# Altium integrated library Texas Instruments Power Management PWM Controller.IntLib: 1227 symbols (part 25 of 49)
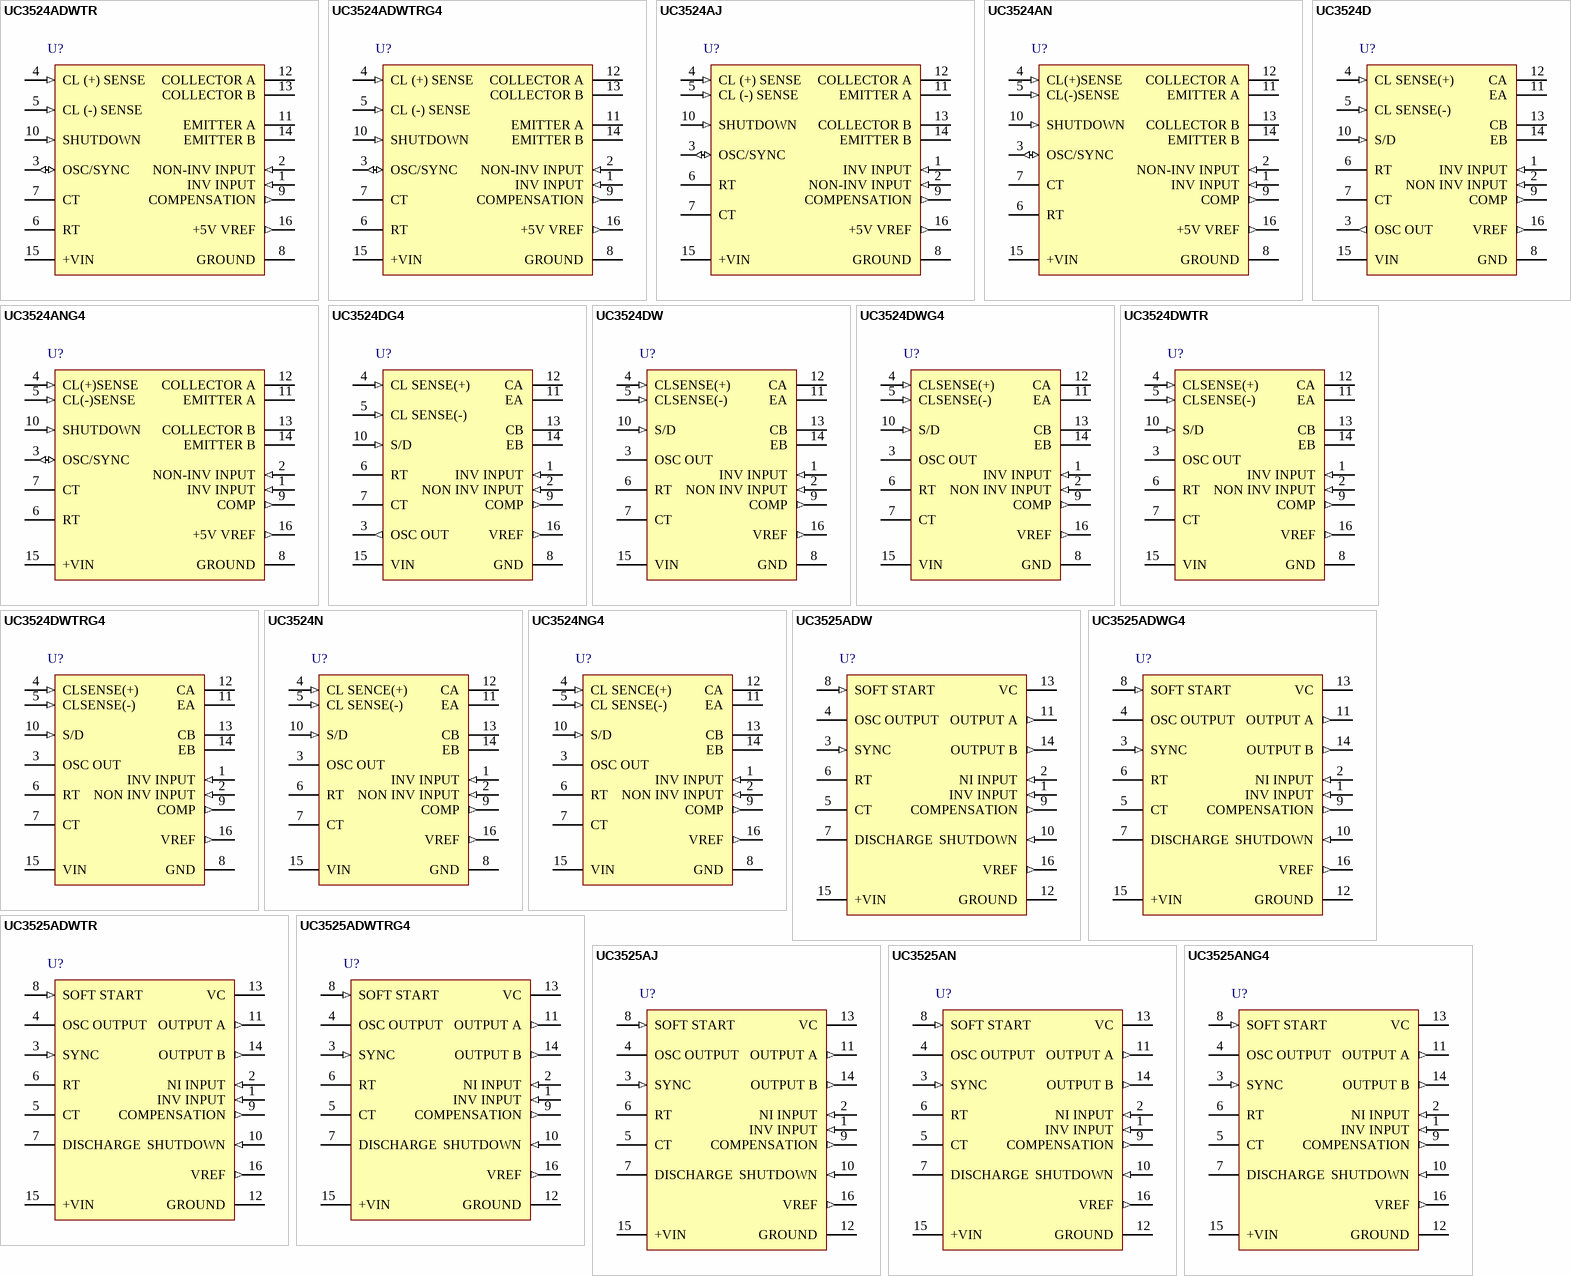
[diagram p67: symbols UC3524ADWTR to UC3525ANG4]

## UC3524DW
designator U?
Advanced Regulating Pulse Width Modulator with Voltage Control, 50 % Duty Cycle, 0 to +70 degC, 16-pin SOIC (DW), Green (RoHS & no Sb/Br); PartNumber: UC3524DW; Manufacturer: Texas Instruments; Duty Cycle(Max)(%): 50; Frequency(Max)(kHz): 450; Rating: Military; Regulated Outputs(#): 2; SubFamily: PWM Controller; Topology: Boost, Flyback, Forward, Full-Bridge, Half-Bridge, Push-Pull; DatasheetVersion: SLUS180E; PackageVersion: revG, Jan-2011; PackageReference: DW16; PackageDescription: 16-Pin Small Outline Integrated Circuit, 10.3 x 7.5 mm, Pitch 1.27 mm Pitch; Supplier 1: Digi-Key; Supplier Part Number 1: UC3524DW-ND; Supplier 2: Newark; Supplier Part Number 2: 77C3121; Supplier 3: Mouser; Supplier Part Number 3: 595-UC3524DW; Control Method: Voltage; Eco-Plan: Green (RoHS & no Sb/Br); UVLO Thresholds On/Off(V): 7.5/7; Mounting Technology: Surface Mount; Code_JEDEC: MS-013-AA; ComponentLink1Description: Datasheet; ComponentLink1URL: http://www.ti.com/general/docs/lit/getliterature.tsp?genericPartNumber=UC3524&fileType=pdf
footprint DW16_N (SOIC, 16-Leads, Body 10.3x7.5mm, Pitch 1.27mm, IPC Medium Density)
footprint DW16_L (SOIC, 16-Leads, Body 10.3x7.5mm, Pitch 1.27mm, IPC High Density)
footprint DW16_M (SOIC, 16-Leads, Body 10.3x7.5mm, Pitch 1.27mm, IPC Low Density)
pins: 1 INV INPUT (in), 2 NON INV INPUT (in), 3 OSC OUT, 4 CLSENSE(+) (in), 5 CLSENSE(-) (in), 6 RT, 7 CT, 8 GND (power), 9 COMP (out), 10 S/D (in), 11 EA, 12 CA, 13 CB, 14 EB, 15 VIN (power), 16 VREF (out)

## UC3524DWG4
designator U?
Advanced Regulating Pulse Width Modulator with Voltage Control, 50 % Duty Cycle, 0 to +70 degC, 16-pin SOIC (DW), Green (RoHS & no Sb/Br); PartNumber: UC3524DWG4; Manufacturer: Texas Instruments; Duty Cycle(Max)(%): 50; Frequency(Max)(kHz): 450; Rating: Military; Regulated Outputs(#): 2; SubFamily: PWM Controller; Topology: Boost, Flyback, Forward, Full-Bridge, Half-Bridge, Push-Pull; DatasheetVersion: SLUS180E; PackageVersion: revG, Jan-2011; PackageReference: DW16; PackageDescription: 16-Pin Small Outline Integrated Circuit, 10.3 x 7.5 mm, Pitch 1.27 mm Pitch; Supplier 1: Digi-Key; Supplier Part Number 1: UC3524DWG4-ND; Supplier 2: Newark; Supplier Part Number 2: 70K5995; Supplier 3: Mouser; Supplier Part Number 3: 595-UC3524DWG4; Control Method: Voltage; Eco-Plan: Green (RoHS & no Sb/Br); UVLO Thresholds On/Off(V): 7.5/7; Mounting Technology: Surface Mount; Code_JEDEC: MS-013-AA; ComponentLink1Description: Datasheet; ComponentLink1URL: http://www.ti.com/general/docs/lit/getliterature.tsp?genericPartNumber=UC3524&fileType=pdf
footprint DW16_N (SOIC, 16-Leads, Body 10.3x7.5mm, Pitch 1.27mm, IPC Medium Density)
footprint DW16_L (SOIC, 16-Leads, Body 10.3x7.5mm, Pitch 1.27mm, IPC High Density)
footprint DW16_M (SOIC, 16-Leads, Body 10.3x7.5mm, Pitch 1.27mm, IPC Low Density)
pins: 1 INV INPUT (in), 2 NON INV INPUT (in), 3 OSC OUT, 4 CLSENSE(+) (in), 5 CLSENSE(-) (in), 6 RT, 7 CT, 8 GND (power), 9 COMP (out), 10 S/D (in), 11 EA, 12 CA, 13 CB, 14 EB, 15 VIN (power), 16 VREF (out)

## UC3524DWTR
designator U?
Advanced Regulating Pulse Width Modulator with Voltage Control, 50 % Duty Cycle, 0 to +70 degC, 16-pin SOIC (DW), Green (RoHS & no Sb/Br); PartNumber: UC3524DWTR; Manufacturer: Texas Instruments; Duty Cycle(Max)(%): 50; Frequency(Max)(kHz): 450; Rating: Military; Regulated Outputs(#): 2; SubFamily: PWM Controller; Topology: Boost, Flyback, Forward, Full-Bridge, Half-Bridge, Push-Pull; DatasheetVersion: SLUS180E; PackageVersion: revG, Jan-2011; PackageReference: DW16; PackageDescription: 16-Pin Small Outline Integrated Circuit, 10.3 x 7.5 mm, Pitch 1.27 mm Pitch; Supplier 1: Digi-Key; Supplier Part Number 1: UC3524DWTR-ND; Supplier 2: Newark; Supplier Part Number 2: 77C3122; Supplier 3: Mouser; Supplier Part Number 3: 595-UC3524DWTR; Control Method: Voltage; Eco-Plan: Green (RoHS & no Sb/Br); UVLO Thresholds On/Off(V): 7.5/7; Mounting Technology: Surface Mount; Code_JEDEC: MS-013-AA; ComponentLink1Description: Datasheet; ComponentLink1URL: http://www.ti.com/general/docs/lit/getliterature.tsp?genericPartNumber=UC3524&fileType=pdf
footprint DW16_N (SOIC, 16-Leads, Body 10.3x7.5mm, Pitch 1.27mm, IPC Medium Density)
footprint DW16_L (SOIC, 16-Leads, Body 10.3x7.5mm, Pitch 1.27mm, IPC High Density)
footprint DW16_M (SOIC, 16-Leads, Body 10.3x7.5mm, Pitch 1.27mm, IPC Low Density)
pins: 1 INV INPUT (in), 2 NON INV INPUT (in), 3 OSC OUT, 4 CLSENSE(+) (in), 5 CLSENSE(-) (in), 6 RT, 7 CT, 8 GND (power), 9 COMP (out), 10 S/D (in), 11 EA, 12 CA, 13 CB, 14 EB, 15 VIN (power), 16 VREF (out)

## UC3524DWTRG4
designator U?
Advanced Regulating Pulse Width Modulator with Voltage Control, 50 % Duty Cycle, 0 to +70 degC, 16-pin SOIC (DW), Green (RoHS & no Sb/Br); PartNumber: UC3524DWTRG4; Manufacturer: Texas Instruments; Duty Cycle(Max)(%): 50; Frequency(Max)(kHz): 450; Rating: Military; Regulated Outputs(#): 2; SubFamily: PWM Controller; Topology: Boost, Flyback, Forward, Full-Bridge, Half-Bridge, Push-Pull; DatasheetVersion: SLUS180E; PackageVersion: revG, Jan-2011; PackageReference: DW16; PackageDescription: 16-Pin Small Outline Integrated Circuit, 10.3 x 7.5 mm, Pitch 1.27 mm Pitch; Supplier 1: Digi-Key; Supplier Part Number 1: UC3524DWTRG4-ND; Supplier 2: Newark; Supplier Part Number 2: 63K6710; Supplier 3: Mouser; Supplier Part Number 3: 595-UC3524DWTRG4; Control Method: Voltage; Eco-Plan: Green (RoHS & no Sb/Br); UVLO Thresholds On/Off(V): 7.5/7; Mounting Technology: Surface Mount; Code_JEDEC: MS-013-AA; ComponentLink1Description: Datasheet; ComponentLink1URL: http://www.ti.com/general/docs/lit/getliterature.tsp?genericPartNumber=UC3524&fileType=pdf
footprint DW16_N (SOIC, 16-Leads, Body 10.3x7.5mm, Pitch 1.27mm, IPC Medium Density)
footprint DW16_L (SOIC, 16-Leads, Body 10.3x7.5mm, Pitch 1.27mm, IPC High Density)
footprint DW16_M (SOIC, 16-Leads, Body 10.3x7.5mm, Pitch 1.27mm, IPC Low Density)
pins: 1 INV INPUT (in), 2 NON INV INPUT (in), 3 OSC OUT, 4 CLSENSE(+) (in), 5 CLSENSE(-) (in), 6 RT, 7 CT, 8 GND (power), 9 COMP (out), 10 S/D (in), 11 EA, 12 CA, 13 CB, 14 EB, 15 VIN (power), 16 VREF (out)

## UC3524N
designator U?
Advanced Regulating Pulse Width Modulator with Voltage Control, 50 % Duty Cycle, 0 to +70 degC, 16-pin PDIP (N), Green (RoHS & no Sb/Br); PartNumber: UC3524N; Manufacturer: Texas Instruments; Duty Cycle(Max)(%): 50; Frequency(Max)(kHz): 450; Rating: Military; Regulated Outputs(#): 2; SubFamily: PWM Controller; Topology: Boost, Flyback, Forward, Full-Bridge, Half-Bridge, Push-Pull; DatasheetVersion: SLUS180E; PackageVersion: revE, Dec-2002; PackageReference: N16; PackageDescription: 16-Pin Plastic Dual-In-Line Package, Row Spacing 7.62 mm, Pitch 2.54 mm; Supplier 1: Digi-Key; Supplier Part Number 1: 296-11214-5-ND; Supplier 2: Newark; Supplier Part Number 2: 77C3123; Supplier 3: Mouser; Supplier Part Number 3: 595-UC3524N; Control Method: Voltage; Eco-Plan: Green (RoHS & no Sb/Br); UVLO Thresholds On/Off(V): 7.5/7; Mounting Technology: Through Hole; Code_JEDEC: MS-001*; ComponentLink1Description: Datasheet; ComponentLink1URL: http://www.ti.com/general/docs/lit/getliterature.tsp?genericPartNumber=UC3524&fileType=pdf
footprint N16 (DIP, 16-Leads, Row Spacing 7.62mm, Pitch 2.54mm, Body 19.3x6.4mm)
pins: 1 INV INPUT (in), 2 NON INV INPUT (in), 3 OSC OUT, 4 CL SENCE(+) (in), 5 CL SENSE(-) (in), 6 RT, 7 CT, 8 GND (power), 9 COMP (out), 10 S/D (in), 11 EA, 12 CA, 13 CB, 14 EB, 15 VIN (power), 16 VREF (out)

## UC3524NG4
designator U?
Advanced Regulating Pulse Width Modulator with Voltage Control, 50 % Duty Cycle, 0 to +70 degC, 16-pin PDIP (N), Green (RoHS & no Sb/Br); PartNumber: UC3524NG4; Manufacturer: Texas Instruments; Duty Cycle(Max)(%): 50; Frequency(Max)(kHz): 450; Rating: Military; Regulated Outputs(#): 2; SubFamily: PWM Controller; Topology: Boost, Flyback, Forward, Full-Bridge, Half-Bridge, Push-Pull; DatasheetVersion: SLUS180E; PackageVersion: revE, Dec-2002; PackageReference: N16; PackageDescription: 16-Pin Plastic Dual-In-Line Package, Row Spacing 7.62 mm, Pitch 2.54 mm; Supplier 1: Digi-Key; Supplier Part Number 1: UC3524NG4-ND; Supplier 2: Newark; Supplier Part Number 2: 54K2302; Supplier 3: Mouser; Supplier Part Number 3: 595-UC3524NG4; Control Method: Voltage; Eco-Plan: Green (RoHS & no Sb/Br); UVLO Thresholds On/Off(V): 7.5/7; Mounting Technology: Through Hole; Code_JEDEC: MS-001*; ComponentLink1Description: Datasheet; ComponentLink1URL: http://www.ti.com/general/docs/lit/getliterature.tsp?genericPartNumber=UC3524&fileType=pdf
footprint N16 (DIP, 16-Leads, Row Spacing 7.62mm, Pitch 2.54mm, Body 19.3x6.4mm)
pins: 1 INV INPUT (in), 2 NON INV INPUT (in), 3 OSC OUT, 4 CL SENCE(+) (in), 5 CL SENSE(-) (in), 6 RT, 7 CT, 8 GND (power), 9 COMP (out), 10 S/D (in), 11 EA, 12 CA, 13 CB, 14 EB, 15 VIN (power), 16 VREF (out)

## UC3525ADW
designator U?
Regulating Pulse Width Modulator with Voltage Control, 50 % Duty Cycle, 0 to +70 degC, 16-pin SOIC (DW), Green (RoHS & no Sb/Br); PartNumber: UC3525ADW; Manufacturer: Texas Instruments; Duty Cycle(Max)(%): 50; Frequency(Max)(kHz): 450; Rating: Catalog; Regulated Outputs(#): 2; SubFamily: PWM Controller; Topology: Boost, Buck, Flyback, Forward, Full-Bridge, Half-Bridge, Push-Pull; DatasheetVersion: SLUS191C; PackageVersion: revG, Jan-2011; PackageReference: DW16; PackageDescription: 16-Pin Small Outline Integrated Circuit, 10.3 x 7.5 mm, Pitch 1.27 mm Pitch; Supplier 1: Digi-Key; Supplier Part Number 1: 296-11215-5-ND; Supplier 2: Farnell; Supplier Part Number 2: 1575780; Supplier 3: Newark; Supplier Part Number 3: 77C3124; Supplier 4: Mouser; Supplier Part Number 4: 595-UC3525ADW; Control Method: Voltage; Eco-Plan: Green (RoHS & no Sb/Br); UVLO Thresholds On/Off(V): 7/6.8; Mounting Technology: Surface Mount; Code_JEDEC: MS-013-AA; ComponentLink1Description: Datasheet; ComponentLink1URL: http://www.ti.com/general/docs/lit/getliterature.tsp?genericPartNumber=UC3525A&fileType=pdf
footprint DW16_N (SOIC, 16-Leads, Body 10.3x7.5mm, Pitch 1.27mm, IPC Medium Density)
footprint DW16_L (SOIC, 16-Leads, Body 10.3x7.5mm, Pitch 1.27mm, IPC High Density)
footprint DW16_M (SOIC, 16-Leads, Body 10.3x7.5mm, Pitch 1.27mm, IPC Low Density)
pins: 1 INV INPUT (in), 2 NI INPUT (in), 3 SYNC (in), 4 OSC OUTPUT, 5 CT, 6 RT, 7 DISCHARGE (oc), 8 SOFT START (in), 9 COMPENSATION (out), 10 SHUTDOWN (in), 11 OUTPUT A (out), 12 GROUND (power), 13 VC (power), 14 OUTPUT B (out), 15 +VIN (power), 16 VREF (out)

## UC3525ADWG4
designator U?
Regulating Pulse Width Modulator with Voltage Control, 50 % Duty Cycle, 0 to +70 degC, 16-pin SOIC (DW), Green (RoHS & no Sb/Br); PartNumber: UC3525ADWG4; Manufacturer: Texas Instruments; Duty Cycle(Max)(%): 50; Frequency(Max)(kHz): 450; Rating: Catalog; Regulated Outputs(#): 2; SubFamily: PWM Controller; Topology: Boost, Buck, Flyback, Forward, Full-Bridge, Half-Bridge, Push-Pull; DatasheetVersion: SLUS191C; PackageVersion: revG, Jan-2011; PackageReference: DW16; PackageDescription: 16-Pin Small Outline Integrated Circuit, 10.3 x 7.5 mm, Pitch 1.27 mm Pitch; Supplier 1: Digi-Key; Supplier Part Number 1: UC3525ADWG4-ND; Supplier 2: Farnell; Supplier Part Number 2: 1234711; Supplier 3: Newark; Supplier Part Number 3: 13M3394; Supplier 4: Newark; Supplier Part Number 4: 80K3537; Supplier 5: Mouser; Supplier Part Number 5: 595-UC3525ADWG4; Control Method: Voltage; Eco-Plan: Green (RoHS & no Sb/Br); UVLO Thresholds On/Off(V): 7/6.8; Mounting Technology: Surface Mount; Code_JEDEC: MS-013-AA; ComponentLink1Description: Datasheet; ComponentLink1URL: http://www.ti.com/general/docs/lit/getliterature.tsp?genericPartNumber=UC3525A&fileType=pdf
footprint DW16_N (SOIC, 16-Leads, Body 10.3x7.5mm, Pitch 1.27mm, IPC Medium Density)
footprint DW16_L (SOIC, 16-Leads, Body 10.3x7.5mm, Pitch 1.27mm, IPC High Density)
footprint DW16_M (SOIC, 16-Leads, Body 10.3x7.5mm, Pitch 1.27mm, IPC Low Density)
pins: 1 INV INPUT (in), 2 NI INPUT (in), 3 SYNC (in), 4 OSC OUTPUT, 5 CT, 6 RT, 7 DISCHARGE (oc), 8 SOFT START (in), 9 COMPENSATION (out), 10 SHUTDOWN (in), 11 OUTPUT A (out), 12 GROUND (power), 13 VC (power), 14 OUTPUT B (out), 15 +VIN (power), 16 VREF (out)

## UC3525ADWTR
designator U?
Regulating Pulse Width Modulator with Voltage Control, 50 % Duty Cycle, 0 to +70 degC, 16-pin SOIC (DW), Green (RoHS & no Sb/Br); PartNumber: UC3525ADWTR; Manufacturer: Texas Instruments; Duty Cycle(Max)(%): 50; Frequency(Max)(kHz): 450; Rating: Catalog; Regulated Outputs(#): 2; SubFamily: PWM Controller; Topology: Boost, Buck, Flyback, Forward, Full-Bridge, Half-Bridge, Push-Pull; DatasheetVersion: SLUS191C; PackageVersion: revG, Jan-2011; PackageReference: DW16; PackageDescription: 16-Pin Small Outline Integrated Circuit, 10.3 x 7.5 mm, Pitch 1.27 mm Pitch; Supplier 1: Digi-Key; Supplier Part Number 1: UC3525ADWTR-ND; Supplier 2: Newark; Supplier Part Number 2: 77C3125; Supplier 3: Mouser; Supplier Part Number 3: 595-UC3525ADWTR; Control Method: Voltage; Eco-Plan: Green (RoHS & no Sb/Br); UVLO Thresholds On/Off(V): 7/6.8; Mounting Technology: Surface Mount; Code_JEDEC: MS-013-AA; ComponentLink1Description: Datasheet; ComponentLink1URL: http://www.ti.com/general/docs/lit/getliterature.tsp?genericPartNumber=UC3525A&fileType=pdf
footprint DW16_N (SOIC, 16-Leads, Body 10.3x7.5mm, Pitch 1.27mm, IPC Medium Density)
footprint DW16_L (SOIC, 16-Leads, Body 10.3x7.5mm, Pitch 1.27mm, IPC High Density)
footprint DW16_M (SOIC, 16-Leads, Body 10.3x7.5mm, Pitch 1.27mm, IPC Low Density)
pins: 1 INV INPUT (in), 2 NI INPUT (in), 3 SYNC (in), 4 OSC OUTPUT, 5 CT, 6 RT, 7 DISCHARGE (oc), 8 SOFT START (in), 9 COMPENSATION (out), 10 SHUTDOWN (in), 11 OUTPUT A (out), 12 GROUND (power), 13 VC (power), 14 OUTPUT B (out), 15 +VIN (power), 16 VREF (out)

## UC3525ADWTRG4
designator U?
Regulating Pulse Width Modulator with Voltage Control, 50 % Duty Cycle, 0 to +70 degC, 16-pin SOIC (DW), Green (RoHS & no Sb/Br); PartNumber: UC3525ADWTRG4; Manufacturer: Texas Instruments; Duty Cycle(Max)(%): 50; Frequency(Max)(kHz): 450; Rating: Catalog; Regulated Outputs(#): 2; SubFamily: PWM Controller; Topology: Boost, Buck, Flyback, Forward, Full-Bridge, Half-Bridge, Push-Pull; DatasheetVersion: SLUS191C; PackageVersion: revG, Jan-2011; PackageReference: DW16; PackageDescription: 16-Pin Small Outline Integrated Circuit, 10.3 x 7.5 mm, Pitch 1.27 mm Pitch; Supplier 1: Digi-Key; Supplier Part Number 1: UC3525ADWTRG4-ND; Supplier 2: Newark; Supplier Part Number 2: 66K4915; Supplier 3: Mouser; Supplier Part Number 3: 595-UC3525ADWTRG4; Control Method: Voltage; Eco-Plan: Green (RoHS & no Sb/Br); UVLO Thresholds On/Off(V): 7/6.8; Mounting Technology: Surface Mount; Code_JEDEC: MS-013-AA; ComponentLink1Description: Datasheet; ComponentLink1URL: http://www.ti.com/general/docs/lit/getliterature.tsp?genericPartNumber=UC3525A&fileType=pdf
footprint DW16_N (SOIC, 16-Leads, Body 10.3x7.5mm, Pitch 1.27mm, IPC Medium Density)
footprint DW16_L (SOIC, 16-Leads, Body 10.3x7.5mm, Pitch 1.27mm, IPC High Density)
footprint DW16_M (SOIC, 16-Leads, Body 10.3x7.5mm, Pitch 1.27mm, IPC Low Density)
pins: 1 INV INPUT (in), 2 NI INPUT (in), 3 SYNC (in), 4 OSC OUTPUT, 5 CT, 6 RT, 7 DISCHARGE (oc), 8 SOFT START (in), 9 COMPENSATION (out), 10 SHUTDOWN (in), 11 OUTPUT A (out), 12 GROUND (power), 13 VC (power), 14 OUTPUT B (out), 15 +VIN (power), 16 VREF (out)

## UC3525AJ
designator U?
Regulating Pulse Width Modulator with Voltage Control, 50 % Duty Cycle, 0 to +70 degC, 16-pin CDIP (J), Green (RoHS & no Sb/Br); PartNumber: UC3525AJ; Manufacturer: Texas Instruments; Duty Cycle(Max)(%): 50; Eco-Plan: TBD; Frequency(Max)(kHz): 450; Rating: Military; Regulated Outputs(#): 2; SubFamily: PWM Controller; Topology: Boost, Buck, Flyback, Forward, Full-Bridge, Half-Bridge, Push-Pull; DatasheetVersion: SLUS191C; PackageVersion: revF, Mar-2003; PackageReference: J16; PackageDescription: 16-Pin, Ceramic Dual In-Line Package, Row Spacing 7.62 mm, Pitch 2.54 mm; Control Method: Voltage; UVLO Thresholds On/Off(V): 7/6.8; Mounting Technology: Through Hole; ComponentLink1Description: Datasheet; ComponentLink1URL: http://www.ti.com/general/docs/lit/getliterature.tsp?genericPartNumber=UC3525AM&fileType=pdf
footprint J16 (DIP, 16-Leads, Row Spacing 7.62mm, Pitch 2.54mm, Body 21.3x6.9mm)
pins: 1 INV INPUT (in), 2 NI INPUT (in), 3 SYNC (in), 4 OSC OUTPUT, 5 CT, 6 RT, 7 DISCHARGE (oc), 8 SOFT START (in), 9 COMPENSATION (out), 10 SHUTDOWN (in), 11 OUTPUT A (out), 12 GROUND (power), 13 VC (power), 14 OUTPUT B (out), 15 +VIN (power), 16 VREF (out)

## UC3525AN
designator U?
Regulating Pulse Width Modulator with Voltage Control, 50 % Duty Cycle, 0 to +70 degC, 16-pin PDIP (N), Green (RoHS & no Sb/Br); PartNumber: UC3525AN; Manufacturer: Texas Instruments; Duty Cycle(Max)(%): 50; Frequency(Max)(kHz): 450; Rating: Catalog; Regulated Outputs(#): 2; SubFamily: PWM Controller; Topology: Boost, Buck, Flyback, Forward, Full-Bridge, Half-Bridge, Push-Pull; DatasheetVersion: SLUS191C; PackageVersion: revE, Dec-2002; PackageReference: N16; PackageDescription: 16-Pin Plastic Dual-In-Line Package, Row Spacing 7.62 mm, Pitch 2.54 mm; Supplier 1: Digi-Key; Supplier Part Number 1: 296-11216-5-ND; Supplier 2: Farnell; Supplier Part Number 2: 2148609; Supplier 3: Newark; Supplier Part Number 3: 74K4006; Supplier 4: Mouser; Supplier Part Number 4: 595-UC3525AN; Control Method: Voltage; Eco-Plan: Green (RoHS & no Sb/Br); UVLO Thresholds On/Off(V): 7/6.8; Mounting Technology: Through Hole; Code_JEDEC: MS-001*; ComponentLink1Description: Datasheet; ComponentLink1URL: http://www.ti.com/general/docs/lit/getliterature.tsp?genericPartNumber=UC3525A&fileType=pdf
footprint N16 (DIP, 16-Leads, Row Spacing 7.62mm, Pitch 2.54mm, Body 19.3x6.4mm)
pins: 1 INV INPUT (in), 2 NI INPUT (in), 3 SYNC (in), 4 OSC OUTPUT, 5 CT, 6 RT, 7 DISCHARGE (oc), 8 SOFT START (in), 9 COMPENSATION (out), 10 SHUTDOWN (in), 11 OUTPUT A (out), 12 GROUND (power), 13 VC (power), 14 OUTPUT B (out), 15 +VIN (power), 16 VREF (out)

## UC3525ANG4
designator U?
Regulating Pulse Width Modulator with Voltage Control, 50 % Duty Cycle, 0 to +70 degC, 16-pin PDIP (N), Green (RoHS & no Sb/Br); PartNumber: UC3525ANG4; Manufacturer: Texas Instruments; Duty Cycle(Max)(%): 50; Frequency(Max)(kHz): 450; Rating: Catalog; Regulated Outputs(#): 2; SubFamily: PWM Controller; Topology: Boost, Buck, Flyback, Forward, Full-Bridge, Half-Bridge, Push-Pull; DatasheetVersion: SLUS191C; PackageVersion: revE, Dec-2002; PackageReference: N16; PackageDescription: 16-Pin Plastic Dual-In-Line Package, Row Spacing 7.62 mm, Pitch 2.54 mm; Supplier 1: Digi-Key; Supplier Part Number 1: UC3525ANG4-ND; Supplier 2: Farnell; Supplier Part Number 2: 1207377; Supplier 3: Newark; Supplier Part Number 3: 24M8886; Supplier 4: Newark; Supplier Part Number 4: 58K7115; Supplier 5: Mouser; Supplier Part Number 5: 595-UC3525ANG4; Control Method: Voltage; Eco-Plan: Green (RoHS & no Sb/Br); UVLO Thresholds On/Off(V): 7/6.8; Mounting Technology: Through Hole; Code_JEDEC: MS-001*; ComponentLink1Description: Datasheet; ComponentLink1URL: http://www.ti.com/general/docs/lit/getliterature.tsp?genericPartNumber=UC3525A&fileType=pdf
footprint N16 (DIP, 16-Leads, Row Spacing 7.62mm, Pitch 2.54mm, Body 19.3x6.4mm)
pins: 1 INV INPUT (in), 2 NI INPUT (in), 3 SYNC (in), 4 OSC OUTPUT, 5 CT, 6 RT, 7 DISCHARGE (oc), 8 SOFT START (in), 9 COMPENSATION (out), 10 SHUTDOWN (in), 11 OUTPUT A (out), 12 GROUND (power), 13 VC (power), 14 OUTPUT B (out), 15 +VIN (power), 16 VREF (out)

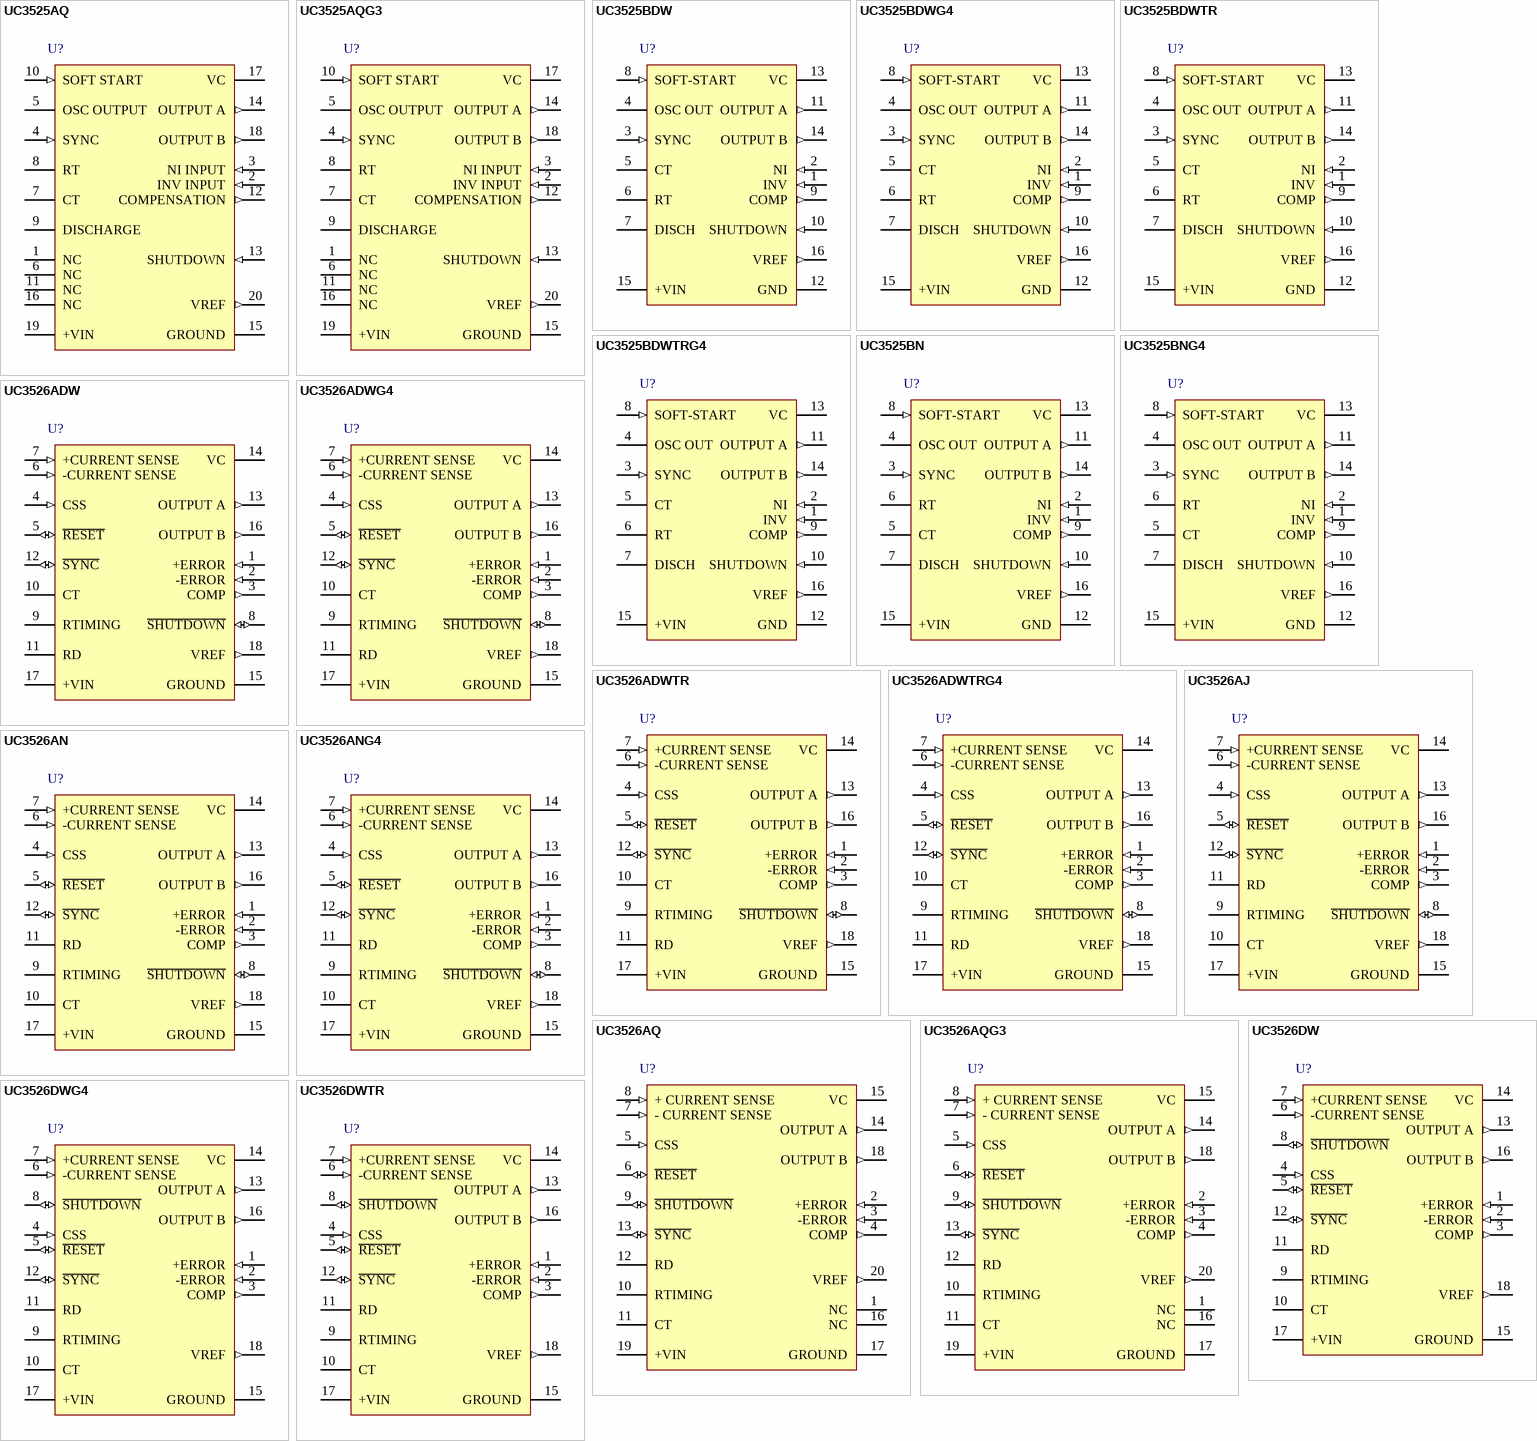
[diagram p27: symbols UC3525AQ to UC3526DWTR]

## UC3525AQ
designator U?
Regulating Pulse Width Modulator with Voltage Control, 50 % Duty Cycle, 0 to +70 degC, 20-pin PLCC (FN), Green (RoHS & no Sb/Br); PartNumber: UC3525AQ; Manufacturer: Texas Instruments; Duty Cycle(Max)(%): 50; Frequency(Max)(kHz): 450; Rating: Catalog; Regulated Outputs(#): 2; SubFamily: PWM Controller; Topology: Boost, Buck, Flyback, Forward, Full-Bridge, Half-Bridge, Push-Pull; DatasheetVersion: SLUS191C; PackageVersion: revB, Mar-1995; PackageReference: FN20; PackageDescription: 20-Pin Plastic Leaded Chip Carrier, 1.27 mm Pitch; Supplier 1: Digi-Key; Supplier Part Number 1: 296-11217-5-ND; Supplier 2: Newark; Supplier Part Number 2: 77C3127; Supplier 3: Mouser; Supplier Part Number 3: 595-UC3525AQ; Control Method: Voltage; Eco-Plan: Green (RoHS & no Sb/Br); UVLO Thresholds On/Off(V): 7/6.8; Mounting Technology: Surface Mount; Code_JEDEC: MS-018; ComponentLink1Description: Datasheet; ComponentLink1URL: http://www.ti.com/general/docs/lit/getliterature.tsp?genericPartNumber=UC3525A&fileType=pdf
footprint FN20_N (Leaded Chip Carrier, 20-Leads, Body 9x9mm, Pitch 1.27mm, IPC Medium Density)
footprint FN20_L (Leaded Chip Carrier, 20-Leads, Body 9x9mm, Pitch 1.27mm, IPC High Density)
footprint FN20_M (Leaded Chip Carrier, 20-Leads, Body 9x9mm, Pitch 1.27mm, IPC Low Density)
pins: 1 NC, 2 INV INPUT (in), 3 NI INPUT (in), 4 SYNC (in), 5 OSC OUTPUT, 6 NC, 7 CT, 8 RT, 9 DISCHARGE (oc), 10 SOFT START (in), 11 NC, 12 COMPENSATION (out), 13 SHUTDOWN (in), 14 OUTPUT A (out), 15 GROUND (power), 16 NC, 17 VC (power), 18 OUTPUT B (out), 19 +VIN (power), 20 VREF (out)

## UC3525AQG3
designator U?
Regulating Pulse Width Modulator with Voltage Control, 50 % Duty Cycle, 0 to +70 degC, 20-pin PLCC (FN), Green (RoHS & no Sb/Br); PartNumber: UC3525AQG3; Manufacturer: Texas Instruments; Duty Cycle(Max)(%): 50; Frequency(Max)(kHz): 450; Rating: Catalog; Regulated Outputs(#): 2; SubFamily: PWM Controller; Topology: Boost, Buck, Flyback, Forward, Full-Bridge, Half-Bridge, Push-Pull; DatasheetVersion: SLUS191C; PackageVersion: revB, Mar-1995; PackageReference: FN20; PackageDescription: 20-Pin Plastic Leaded Chip Carrier, 1.27 mm Pitch; Supplier 1: Digi-Key; Supplier Part Number 1: UC3525AQG3-ND; Supplier 2: Newark; Supplier Part Number 2: 70K5996; Supplier 3: Mouser; Supplier Part Number 3: 595-UC3525AQG3; Control Method: Voltage; Eco-Plan: Green (RoHS & no Sb/Br); UVLO Thresholds On/Off(V): 7/6.8; Mounting Technology: Surface Mount; Code_JEDEC: MS-018; ComponentLink1Description: Datasheet; ComponentLink1URL: http://www.ti.com/general/docs/lit/getliterature.tsp?genericPartNumber=UC3525A&fileType=pdf
footprint FN20_N (Leaded Chip Carrier, 20-Leads, Body 9x9mm, Pitch 1.27mm, IPC Medium Density)
footprint FN20_L (Leaded Chip Carrier, 20-Leads, Body 9x9mm, Pitch 1.27mm, IPC High Density)
footprint FN20_M (Leaded Chip Carrier, 20-Leads, Body 9x9mm, Pitch 1.27mm, IPC Low Density)
pins: 1 NC, 2 INV INPUT (in), 3 NI INPUT (in), 4 SYNC (in), 5 OSC OUTPUT, 6 NC, 7 CT, 8 RT, 9 DISCHARGE (oc), 10 SOFT START (in), 11 NC, 12 COMPENSATION (out), 13 SHUTDOWN (in), 14 OUTPUT A (out), 15 GROUND (power), 16 NC, 17 VC (power), 18 OUTPUT B (out), 19 +VIN (power), 20 VREF (out)

## UC3525BDW
designator U?
Regulating Pulse Width Modulator with Voltage Control, 50 % Duty Cycle, 0 to +70 degC, 16-pin SOIC (DW), Green (RoHS & no Sb/Br); PartNumber: UC3525BDW; Manufacturer: Texas Instruments; Duty Cycle(Max)(%): 50; Frequency(Max)(kHz): 450; Rating: Catalog; Regulated Outputs(#): 2; SubFamily: PWM Controller; Topology: Boost, Buck, Flyback, Forward, Full-Bridge, Half-Bridge, Push-Pull; DatasheetVersion: SLUS376; PackageVersion: revG, Jan-2011; PackageReference: DW16; PackageDescription: 16-Pin Small Outline Integrated Circuit, 10.3 x 7.5 mm, Pitch 1.27 mm Pitch; Supplier 1: Digi-Key; Supplier Part Number 1: 296-2503-5-ND; Supplier 2: Farnell; Supplier Part Number 2: 1461255; Supplier 3: Newark; Supplier Part Number 3: 62M0953; Supplier 4: Newark; Supplier Part Number 4: 77C3129; Supplier 5: Mouser; Supplier Part Number 5: 595-UC3525BDW; Control Method: Voltage; Eco-Plan: Green (RoHS & no Sb/Br); UVLO Thresholds On/Off(V): 7/6.8; Mounting Technology: Surface Mount; Code_JEDEC: MS-013-AA; ComponentLink1Description: Datasheet; ComponentLink1URL: http://www.ti.com/general/docs/lit/getliterature.tsp?genericPartNumber=UC3525B&fileType=pdf
footprint DW16_N (SOIC, 16-Leads, Body 10.3x7.5mm, Pitch 1.27mm, IPC Medium Density)
footprint DW16_L (SOIC, 16-Leads, Body 10.3x7.5mm, Pitch 1.27mm, IPC High Density)
footprint DW16_M (SOIC, 16-Leads, Body 10.3x7.5mm, Pitch 1.27mm, IPC Low Density)
pins: 1 INV (in), 2 NI (in), 3 SYNC (in), 4 OSC OUT, 5 CT, 6 RT, 7 DISCH (oc), 8 SOFT-START (in), 9 COMP (out), 10 SHUTDOWN (in), 11 OUTPUT A (out), 12 GND (power), 13 VC (power), 14 OUTPUT B (out), 15 +VIN (power), 16 VREF (out)

## UC3525BDWG4
designator U?
Regulating Pulse Width Modulator with Voltage Control, 50 % Duty Cycle, 0 to +70 degC, 16-pin SOIC (DW), Green (RoHS & no Sb/Br); PartNumber: UC3525BDWG4; Manufacturer: Texas Instruments; Duty Cycle(Max)(%): 50; Frequency(Max)(kHz): 450; Rating: Catalog; Regulated Outputs(#): 2; SubFamily: PWM Controller; Topology: Boost, Buck, Flyback, Forward, Full-Bridge, Half-Bridge, Push-Pull; DatasheetVersion: SLUS376; PackageVersion: revG, Jan-2011; PackageReference: DW16; PackageDescription: 16-Pin Small Outline Integrated Circuit, 10.3 x 7.5 mm, Pitch 1.27 mm Pitch; Supplier 1: Digi-Key; Supplier Part Number 1: UC3525BDWG4-ND; Supplier 2: Newark; Supplier Part Number 2: 73K9697; Supplier 3: Mouser; Supplier Part Number 3: 595-UC3525BDWG4; Control Method: Voltage; Eco-Plan: Green (RoHS & no Sb/Br); UVLO Thresholds On/Off(V): 7/6.8; Mounting Technology: Surface Mount; Code_JEDEC: MS-013-AA; ComponentLink1Description: Datasheet; ComponentLink1URL: http://www.ti.com/general/docs/lit/getliterature.tsp?genericPartNumber=UC3525B&fileType=pdf
footprint DW16_N (SOIC, 16-Leads, Body 10.3x7.5mm, Pitch 1.27mm, IPC Medium Density)
footprint DW16_L (SOIC, 16-Leads, Body 10.3x7.5mm, Pitch 1.27mm, IPC High Density)
footprint DW16_M (SOIC, 16-Leads, Body 10.3x7.5mm, Pitch 1.27mm, IPC Low Density)
pins: 1 INV (in), 2 NI (in), 3 SYNC (in), 4 OSC OUT, 5 CT, 6 RT, 7 DISCH (oc), 8 SOFT-START (in), 9 COMP (out), 10 SHUTDOWN (in), 11 OUTPUT A (out), 12 GND (power), 13 VC (power), 14 OUTPUT B (out), 15 +VIN (power), 16 VREF (out)

## UC3525BDWTR
designator U?
Regulating Pulse Width Modulator with Voltage Control, 50 % Duty Cycle, 0 to +70 degC, 16-pin SOIC (DW), Green (RoHS & no Sb/Br); PartNumber: UC3525BDWTR; Manufacturer: Texas Instruments; Duty Cycle(Max)(%): 50; Frequency(Max)(kHz): 450; Rating: Catalog; Regulated Outputs(#): 2; SubFamily: PWM Controller; Topology: Boost, Buck, Flyback, Forward, Full-Bridge, Half-Bridge, Push-Pull; DatasheetVersion: SLUS376; PackageVersion: revG, Jan-2011; PackageReference: DW16; PackageDescription: 16-Pin Small Outline Integrated Circuit, 10.3 x 7.5 mm, Pitch 1.27 mm Pitch; Supplier 1: Digi-Key; Supplier Part Number 1: UC3525BDWTR-ND; Supplier 2: Newark; Supplier Part Number 2: 77C3130; Supplier 3: Mouser; Supplier Part Number 3: 595-UC3525BDWTR; Control Method: Voltage; Eco-Plan: Green (RoHS & no Sb/Br); UVLO Thresholds On/Off(V): 7/6.8; Mounting Technology: Surface Mount; Code_JEDEC: MS-013-AA; ComponentLink1Description: Datasheet; ComponentLink1URL: http://www.ti.com/general/docs/lit/getliterature.tsp?genericPartNumber=UC3525B&fileType=pdf
footprint DW16_N (SOIC, 16-Leads, Body 10.3x7.5mm, Pitch 1.27mm, IPC Medium Density)
footprint DW16_L (SOIC, 16-Leads, Body 10.3x7.5mm, Pitch 1.27mm, IPC High Density)
footprint DW16_M (SOIC, 16-Leads, Body 10.3x7.5mm, Pitch 1.27mm, IPC Low Density)
pins: 1 INV (in), 2 NI (in), 3 SYNC (in), 4 OSC OUT, 5 CT, 6 RT, 7 DISCH (oc), 8 SOFT-START (in), 9 COMP (out), 10 SHUTDOWN (in), 11 OUTPUT A (out), 12 GND (power), 13 VC (power), 14 OUTPUT B (out), 15 +VIN (power), 16 VREF (out)

## UC3525BDWTRG4
designator U?
Regulating Pulse Width Modulator with Voltage Control, 50 % Duty Cycle, 0 to +70 degC, 16-pin SOIC (DW), Green (RoHS & no Sb/Br); PartNumber: UC3525BDWTRG4; Manufacturer: Texas Instruments; Duty Cycle(Max)(%): 50; Frequency(Max)(kHz): 450; Rating: Catalog; Regulated Outputs(#): 2; SubFamily: PWM Controller; Topology: Boost, Buck, Flyback, Forward, Full-Bridge, Half-Bridge, Push-Pull; DatasheetVersion: SLUS376; PackageVersion: revG, Jan-2011; PackageReference: DW16; PackageDescription: 16-Pin Small Outline Integrated Circuit, 10.3 x 7.5 mm, Pitch 1.27 mm Pitch; Supplier 1: Digi-Key; Supplier Part Number 1: UC3525BDWTRG4-ND; Supplier 2: Newark; Supplier Part Number 2: 63K6711; Supplier 3: Mouser; Supplier Part Number 3: 595-UC3525BDWTRG4; Control Method: Voltage; Eco-Plan: Green (RoHS & no Sb/Br); UVLO Thresholds On/Off(V): 7/6.8; Mounting Technology: Surface Mount; Code_JEDEC: MS-013-AA; ComponentLink1Description: Datasheet; ComponentLink1URL: http://www.ti.com/general/docs/lit/getliterature.tsp?genericPartNumber=UC3525B&fileType=pdf
footprint DW16_N (SOIC, 16-Leads, Body 10.3x7.5mm, Pitch 1.27mm, IPC Medium Density)
footprint DW16_L (SOIC, 16-Leads, Body 10.3x7.5mm, Pitch 1.27mm, IPC High Density)
footprint DW16_M (SOIC, 16-Leads, Body 10.3x7.5mm, Pitch 1.27mm, IPC Low Density)
pins: 1 INV (in), 2 NI (in), 3 SYNC (in), 4 OSC OUT, 5 CT, 6 RT, 7 DISCH (oc), 8 SOFT-START (in), 9 COMP (out), 10 SHUTDOWN (in), 11 OUTPUT A (out), 12 GND (power), 13 VC (power), 14 OUTPUT B (out), 15 +VIN (power), 16 VREF (out)

## UC3525BN
designator U?
Regulating Pulse Width Modulator with Voltage Control, 50 % Duty Cycle, 0 to +70 degC, 16-pin PDIP (N), Green (RoHS & no Sb/Br); PartNumber: UC3525BN; Manufacturer: Texas Instruments; Duty Cycle(Max)(%): 50; Frequency(Max)(kHz): 450; Rating: Catalog; Regulated Outputs(#): 2; SubFamily: PWM Controller; Topology: Boost, Buck, Flyback, Forward, Full-Bridge, Half-Bridge, Push-Pull; DatasheetVersion: SLUS376; PackageVersion: revE, Dec-2002; PackageReference: N16; PackageDescription: 16-Pin Plastic Dual-In-Line Package, Row Spacing 7.62 mm, Pitch 2.54 mm; Supplier 1: Digi-Key; Supplier Part Number 1: 296-11218-5-ND; Supplier 2: Newark; Supplier Part Number 2: 77C3131; Supplier 3: Mouser; Supplier Part Number 3: 595-UC3525BN; Control Method: Voltage; Eco-Plan: Green (RoHS & no Sb/Br); UVLO Thresholds On/Off(V): 7/6.8; Mounting Technology: Through Hole; Code_JEDEC: MS-001*; ComponentLink1Description: Datasheet; ComponentLink1URL: http://www.ti.com/general/docs/lit/getliterature.tsp?genericPartNumber=UC3525B&fileType=pdf
footprint N16 (DIP, 16-Leads, Row Spacing 7.62mm, Pitch 2.54mm, Body 19.3x6.4mm)
pins: 1 INV (in), 2 NI (in), 3 SYNC (in), 4 OSC OUT, 5 CT, 6 RT, 7 DISCH (oc), 8 SOFT-START (in), 9 COMP (out), 10 SHUTDOWN (in), 11 OUTPUT A (out), 12 GND (power), 13 VC (power), 14 OUTPUT B (out), 15 +VIN (power), 16 VREF (out)

## UC3525BNG4
designator U?
Regulating Pulse Width Modulator with Voltage Control, 50 % Duty Cycle, 0 to +70 degC, 16-pin PDIP (N), Green (RoHS & no Sb/Br); PartNumber: UC3525BNG4; Manufacturer: Texas Instruments; Duty Cycle(Max)(%): 50; Frequency(Max)(kHz): 450; Rating: Catalog; Regulated Outputs(#): 2; SubFamily: PWM Controller; Topology: Boost, Buck, Flyback, Forward, Full-Bridge, Half-Bridge, Push-Pull; DatasheetVersion: SLUS376; PackageVersion: revE, Dec-2002; PackageReference: N16; PackageDescription: 16-Pin Plastic Dual-In-Line Package, Row Spacing 7.62 mm, Pitch 2.54 mm; Supplier 1: Digi-Key; Supplier Part Number 1: UC3525BNG4-ND; Supplier 2: Newark; Supplier Part Number 2: 61K2000; Supplier 3: Mouser; Supplier Part Number 3: 595-UC3525BNG4; Control Method: Voltage; Eco-Plan: Green (RoHS & no Sb/Br); UVLO Thresholds On/Off(V): 7/6.8; Mounting Technology: Through Hole; Code_JEDEC: MS-001*; ComponentLink1Description: Datasheet; ComponentLink1URL: http://www.ti.com/general/docs/lit/getliterature.tsp?genericPartNumber=UC3525B&fileType=pdf
footprint N16 (DIP, 16-Leads, Row Spacing 7.62mm, Pitch 2.54mm, Body 19.3x6.4mm)
pins: 1 INV (in), 2 NI (in), 3 SYNC (in), 4 OSC OUT, 5 CT, 6 RT, 7 DISCH (oc), 8 SOFT-START (in), 9 COMP (out), 10 SHUTDOWN (in), 11 OUTPUT A (out), 12 GND (power), 13 VC (power), 14 OUTPUT B (out), 15 +VIN (power), 16 VREF (out)

## UC3526ADW
designator U?
Regulating Pulse Width Modulator with Voltage Control, 50 % Duty Cycle, 0 to +70 degC, 18-pin SOIC (DW), Green (RoHS & no Sb/Br); PartNumber: UC3526ADW; Manufacturer: Texas Instruments; Duty Cycle(Max)(%): 50; Frequency(Max)(kHz): 450; Rating: Catalog; Regulated Outputs(#): 2; SubFamily: PWM Controller; Topology: Boost, Buck, Flyback, Forward, Full-Bridge, Half-Bridge, Push-Pull; DatasheetVersion: SLUS187; PackageVersion: revG, Jan-2011; PackageReference: DW18; PackageDescription: 18-Pin Plastic Small Outline Integrated Circuit, 11.6 x 7.5 mm, Pitch 1.27 mm Pitch; Supplier 1: Digi-Key; Supplier Part Number 1: 296-11219-5-ND; Supplier 2: Farnell; Supplier Part Number 2: 1296037; Supplier 3: Newark; Supplier Part Number 3: 77C3132; Supplier 4: Mouser; Supplier Part Number 4: 595-UC3526ADW; Control Method: Voltage; Eco-Plan: Green (RoHS & no Sb/Br); UVLO Thresholds On/Off(V): 7/6.8; Mounting Technology: Surface Mount; Code_JEDEC: MS-013-AB; ComponentLink1Description: Datasheet; ComponentLink1URL: http://www.ti.com/general/docs/lit/getliterature.tsp?genericPartNumber=UC3526A&fileType=pdf
footprint DW18_N (SOIC, 18-Leads, Body 11.6x7.5mm, Pitch 1.27mm, IPC Medium Density)
footprint DW18_L (SOIC, 18-Leads, Body 11.6x7.5mm, Pitch 1.27mm, IPC High Density)
footprint DW18_M (SOIC, 18-Leads, Body 11.6x7.5mm, Pitch 1.27mm, IPC Low Density)
pins: 1 +ERROR (in), 2 -ERROR (in), 3 COMP (out), 4 CSS (in), 5 ~{RESET} (io), 6 -CURRENT SENSE (in), 7 +CURRENT SENSE (in), 8 ~{SHUTDOWN} (io), 9 RTIMING, 10 CT, 11 RD, 12 ~{SYNC} (io), 13 OUTPUT A (out), 14 VC (power), 15 GROUND (power), 16 OUTPUT B (out), 17 +VIN (power), 18 VREF (out)

## UC3526ADWG4
designator U?
Regulating Pulse Width Modulator with Voltage Control, 50 % Duty Cycle, 0 to +70 degC, 18-pin SOIC (DW), Green (RoHS & no Sb/Br); PartNumber: UC3526ADWG4; Manufacturer: Texas Instruments; Duty Cycle(Max)(%): 50; Frequency(Max)(kHz): 450; Rating: Catalog; Regulated Outputs(#): 2; SubFamily: PWM Controller; Topology: Boost, Buck, Flyback, Forward, Full-Bridge, Half-Bridge, Push-Pull; DatasheetVersion: SLUS187; PackageVersion: revG, Jan-2011; PackageReference: DW18; PackageDescription: 18-Pin Plastic Small Outline Integrated Circuit, 11.6 x 7.5 mm, Pitch 1.27 mm Pitch; Supplier 1: Digi-Key; Supplier Part Number 1: UC3526ADWG4-ND; Supplier 2: Farnell; Supplier Part Number 2: 1234800; Supplier 3: Newark; Supplier Part Number 3: 13M3395; Supplier 4: Newark; Supplier Part Number 4: 63K6712; Supplier 5: Mouser; Supplier Part Number 5: 595-UC3526ADWG4; Control Method: Voltage; Eco-Plan: Green (RoHS & no Sb/Br); UVLO Thresholds On/Off(V): 7/6.8; Mounting Technology: Surface Mount; Code_JEDEC: MS-013-AB; ComponentLink1Description: Datasheet; ComponentLink1URL: http://www.ti.com/general/docs/lit/getliterature.tsp?genericPartNumber=UC3526A&fileType=pdf
footprint DW18_N (SOIC, 18-Leads, Body 11.6x7.5mm, Pitch 1.27mm, IPC Medium Density)
footprint DW18_L (SOIC, 18-Leads, Body 11.6x7.5mm, Pitch 1.27mm, IPC High Density)
footprint DW18_M (SOIC, 18-Leads, Body 11.6x7.5mm, Pitch 1.27mm, IPC Low Density)
pins: 1 +ERROR (in), 2 -ERROR (in), 3 COMP (out), 4 CSS (in), 5 ~{RESET} (io), 6 -CURRENT SENSE (in), 7 +CURRENT SENSE (in), 8 ~{SHUTDOWN} (io), 9 RTIMING, 10 CT, 11 RD, 12 ~{SYNC} (io), 13 OUTPUT A (out), 14 VC (power), 15 GROUND (power), 16 OUTPUT B (out), 17 +VIN (power), 18 VREF (out)

## UC3526ADWTR
designator U?
Regulating Pulse Width Modulator with Voltage Control, 50 % Duty Cycle, 0 to +70 degC, 18-pin SOIC (DW), Green (RoHS & no Sb/Br); PartNumber: UC3526ADWTR; Manufacturer: Texas Instruments; Duty Cycle(Max)(%): 50; Frequency(Max)(kHz): 450; Rating: Catalog; Regulated Outputs(#): 2; SubFamily: PWM Controller; Topology: Boost, Buck, Flyback, Forward, Full-Bridge, Half-Bridge, Push-Pull; DatasheetVersion: SLUS187; PackageVersion: revG, Jan-2011; PackageReference: DW18; PackageDescription: 18-Pin Plastic Small Outline Integrated Circuit, 11.6 x 7.5 mm, Pitch 1.27 mm Pitch; Supplier 1: Digi-Key; Supplier Part Number 1: UC3526ADWTR-ND; Supplier 2: Newark; Supplier Part Number 2: 77C3133; Supplier 3: Mouser; Supplier Part Number 3: 595-UC3526ADWTR; Control Method: Voltage; Eco-Plan: Green (RoHS & no Sb/Br); UVLO Thresholds On/Off(V): 7/6.8; Mounting Technology: Surface Mount; Code_JEDEC: MS-013-AB; ComponentLink1Description: Datasheet; ComponentLink1URL: http://www.ti.com/general/docs/lit/getliterature.tsp?genericPartNumber=UC3526A&fileType=pdf
footprint DW18_N (SOIC, 18-Leads, Body 11.6x7.5mm, Pitch 1.27mm, IPC Medium Density)
footprint DW18_L (SOIC, 18-Leads, Body 11.6x7.5mm, Pitch 1.27mm, IPC High Density)
footprint DW18_M (SOIC, 18-Leads, Body 11.6x7.5mm, Pitch 1.27mm, IPC Low Density)
pins: 1 +ERROR (in), 2 -ERROR (in), 3 COMP (out), 4 CSS (in), 5 ~{RESET} (io), 6 -CURRENT SENSE (in), 7 +CURRENT SENSE (in), 8 ~{SHUTDOWN} (io), 9 RTIMING, 10 CT, 11 RD, 12 ~{SYNC} (io), 13 OUTPUT A (out), 14 VC (power), 15 GROUND (power), 16 OUTPUT B (out), 17 +VIN (power), 18 VREF (out)

## UC3526ADWTRG4
designator U?
Regulating Pulse Width Modulator with Voltage Control, 50 % Duty Cycle, 0 to +70 degC, 18-pin SOIC (DW), Green (RoHS & no Sb/Br); PartNumber: UC3526ADWTRG4; Manufacturer: Texas Instruments; Duty Cycle(Max)(%): 50; Frequency(Max)(kHz): 450; Rating: Catalog; Regulated Outputs(#): 2; SubFamily: PWM Controller; Topology: Boost, Buck, Flyback, Forward, Full-Bridge, Half-Bridge, Push-Pull; DatasheetVersion: SLUS187; PackageVersion: revG, Jan-2011; PackageReference: DW18; PackageDescription: 18-Pin Plastic Small Outline Integrated Circuit, 11.6 x 7.5 mm, Pitch 1.27 mm Pitch; Supplier 1: Digi-Key; Supplier Part Number 1: UC3526ADWTRG4-ND; Supplier 2: Newark; Supplier Part Number 2: 66K4916; Supplier 3: Mouser; Supplier Part Number 3: 595-UC3526ADWTRG4; Control Method: Voltage; Eco-Plan: Green (RoHS & no Sb/Br); UVLO Thresholds On/Off(V): 7/6.8; Mounting Technology: Surface Mount; Code_JEDEC: MS-013-AB; ComponentLink1Description: Datasheet; ComponentLink1URL: http://www.ti.com/general/docs/lit/getliterature.tsp?genericPartNumber=UC3526A&fileType=pdf
footprint DW18_N (SOIC, 18-Leads, Body 11.6x7.5mm, Pitch 1.27mm, IPC Medium Density)
footprint DW18_L (SOIC, 18-Leads, Body 11.6x7.5mm, Pitch 1.27mm, IPC High Density)
footprint DW18_M (SOIC, 18-Leads, Body 11.6x7.5mm, Pitch 1.27mm, IPC Low Density)
pins: 1 +ERROR (in), 2 -ERROR (in), 3 COMP (out), 4 CSS (in), 5 ~{RESET} (io), 6 -CURRENT SENSE (in), 7 +CURRENT SENSE (in), 8 ~{SHUTDOWN} (io), 9 RTIMING, 10 CT, 11 RD, 12 ~{SYNC} (io), 13 OUTPUT A (out), 14 VC (power), 15 GROUND (power), 16 OUTPUT B (out), 17 +VIN (power), 18 VREF (out)

## UC3526AJ
designator U?
Regulating Pulse Width Modulator with Voltage Control, 50 % Duty Cycle, 0 to +70 degC, 18-pin CDIP (J); PartNumber: UC3526AJ; Manufacturer: Texas Instruments; Duty Cycle(Max)(%): 50; Eco-Plan: TBD; Frequency(Max)(kHz): 450; Rating: Military; Regulated Outputs(#): 2; SubFamily: PWM Controller; Topology: Boost, Flyback, Forward, Full-Bridge, Half-Bridge, Push-Pull; DatasheetVersion: SLUS185; PackageVersion: revF, Mar-2003; PackageReference: J18; PackageDescription: 18-Pin, Ceramic Dual In-Line Package, Row Spacing 7.62 mm, Pitch 2.54 mm; Control Method: Voltage; UVLO Thresholds On/Off(V): 7/6.8; Mounting Technology: Through Hole; ComponentLink1Description: Datasheet; ComponentLink1URL: http://www.ti.com/general/docs/lit/getliterature.tsp?genericPartNumber=UC3526AM&fileType=pdf
footprint J18 (DIP, 18-Leads, Row Spacing 7.62mm, Pitch 2.54mm, Body 24.1x6.7mm)
pins: 1 +ERROR (in), 2 -ERROR (in), 3 COMP (out), 4 CSS (in), 5 ~{RESET} (io), 6 -CURRENT SENSE (in), 7 +CURRENT SENSE (in), 8 ~{SHUTDOWN} (io), 9 RTIMING, 10 CT, 11 RD, 12 ~{SYNC} (io), 13 OUTPUT A (out), 14 VC (power), 15 GROUND (power), 16 OUTPUT B (out), 17 +VIN (power), 18 VREF (out)

## UC3526AN
designator U?
Regulating Pulse Width Modulator with Voltage Control, 50 % Duty Cycle, 0 to +70 degC, 18-pin PDIP (N), Green (RoHS & no Sb/Br); PartNumber: UC3526AN; Manufacturer: Texas Instruments; Duty Cycle(Max)(%): 50; Frequency(Max)(kHz): 450; Rating: Catalog; Regulated Outputs(#): 2; SubFamily: PWM Controller; Topology: Boost, Buck, Flyback, Forward, Full-Bridge, Half-Bridge, Push-Pull; DatasheetVersion: SLUS187; PackageVersion: revE, Dec-2002; PackageReference: N18; PackageDescription: 18-Pin Plastic Dual-In-Line Package, Row Spacing 7.62 mm, Pitch 2.54 mm; Supplier 1: Digi-Key; Supplier Part Number 1: 296-11220-5-ND; Supplier 2: Farnell; Supplier Part Number 2: 1101440; Supplier 3: Newark; Supplier Part Number 3: 62K3472; Supplier 4: Mouser; Supplier Part Number 4: 595-UC3526AN; Control Method: Voltage; Eco-Plan: Green (RoHS & no Sb/Br); UVLO Thresholds On/Off(V): 7/6.8; Mounting Technology: Through Hole; Code_JEDEC: MS-001-AC*; ComponentLink1Description: Datasheet; ComponentLink1URL: http://www.ti.com/general/docs/lit/getliterature.tsp?genericPartNumber=UC3526A&fileType=pdf
footprint N18 (DIP, 18-Leads, Row Spacing 7.62mm, Pitch 2.54mm, Body 22.5x6.4mm)
pins: 1 +ERROR (in), 2 -ERROR (in), 3 COMP (out), 4 CSS (in), 5 ~{RESET} (io), 6 -CURRENT SENSE (in), 7 +CURRENT SENSE (in), 8 ~{SHUTDOWN} (io), 9 RTIMING, 10 CT, 11 RD, 12 ~{SYNC} (io), 13 OUTPUT A (out), 14 VC (power), 15 GROUND (power), 16 OUTPUT B (out), 17 +VIN (power), 18 VREF (out)

## UC3526ANG4
designator U?
Regulating Pulse Width Modulator with Voltage Control, 50 % Duty Cycle, 0 to +70 degC, 18-pin PDIP (N), Green (RoHS & no Sb/Br); PartNumber: UC3526ANG4; Manufacturer: Texas Instruments; Duty Cycle(Max)(%): 50; Frequency(Max)(kHz): 450; Rating: Catalog; Regulated Outputs(#): 2; SubFamily: PWM Controller; Topology: Boost, Buck, Flyback, Forward, Full-Bridge, Half-Bridge, Push-Pull; DatasheetVersion: SLUS187; PackageVersion: revE, Dec-2002; PackageReference: N18; PackageDescription: 18-Pin Plastic Dual-In-Line Package, Row Spacing 7.62 mm, Pitch 2.54 mm; Supplier 1: Digi-Key; Supplier Part Number 1: UC3526ANG4-ND; Supplier 2: Newark; Supplier Part Number 2: 58K7116; Supplier 3: Mouser; Supplier Part Number 3: 595-UC3526ANG4; Control Method: Voltage; Eco-Plan: Green (RoHS & no Sb/Br); UVLO Thresholds On/Off(V): 7/6.8; Mounting Technology: Through Hole; Code_JEDEC: MS-001-AC*; ComponentLink1Description: Datasheet; ComponentLink1URL: http://www.ti.com/general/docs/lit/getliterature.tsp?genericPartNumber=UC3526A&fileType=pdf
footprint N18 (DIP, 18-Leads, Row Spacing 7.62mm, Pitch 2.54mm, Body 22.5x6.4mm)
pins: 1 +ERROR (in), 2 -ERROR (in), 3 COMP (out), 4 CSS (in), 5 ~{RESET} (io), 6 -CURRENT SENSE (in), 7 +CURRENT SENSE (in), 8 ~{SHUTDOWN} (io), 9 RTIMING, 10 CT, 11 RD, 12 ~{SYNC} (io), 13 OUTPUT A (out), 14 VC (power), 15 GROUND (power), 16 OUTPUT B (out), 17 +VIN (power), 18 VREF (out)

## UC3526AQ
designator U?
Regulating Pulse Width Modulator with Voltage Control, 50 % Duty Cycle, 0 to +70 degC, 20-pin PLCC (FN), Green (RoHS & no Sb/Br); PartNumber: UC3526AQ; Manufacturer: Texas Instruments; Duty Cycle(Max)(%): 50; Frequency(Max)(kHz): 450; Rating: Catalog; Regulated Outputs(#): 2; SubFamily: PWM Controller; Topology: Boost, Buck, Flyback, Forward, Full-Bridge, Half-Bridge, Push-Pull; DatasheetVersion: SLUS187; PackageVersion: revB, Mar-1995; PackageReference: FN20; PackageDescription: 20-Pin Plastic Leaded Chip Carrier, 1.27 mm Pitch; Supplier 1: Digi-Key; Supplier Part Number 1: UC3526AQ-ND; Supplier 2: Newark; Supplier Part Number 2: 77C3135; Supplier 3: Mouser; Supplier Part Number 3: 595-UC3526AQ; Control Method: Voltage; Eco-Plan: Green (RoHS & no Sb/Br); UVLO Thresholds On/Off(V): 7/6.8; Mounting Technology: Surface Mount; Code_JEDEC: MS-018; ComponentLink1Description: Datasheet; ComponentLink1URL: http://www.ti.com/general/docs/lit/getliterature.tsp?genericPartNumber=UC3526A&fileType=pdf
footprint FN20_N (Leaded Chip Carrier, 20-Leads, Body 9x9mm, Pitch 1.27mm, IPC Medium Density)
footprint FN20_L (Leaded Chip Carrier, 20-Leads, Body 9x9mm, Pitch 1.27mm, IPC High Density)
footprint FN20_M (Leaded Chip Carrier, 20-Leads, Body 9x9mm, Pitch 1.27mm, IPC Low Density)
pins: 1 NC, 2 +ERROR (in), 3 -ERROR (in), 4 COMP (out), 5 CSS (in), 6 ~{RESET} (io), 7 - CURRENT SENSE (in), 8 + CURRENT SENSE (in), 9 ~{SHUTDOWN} (io), 10 RTIMING, 11 CT, 12 RD, 13 ~{SYNC} (io), 14 OUTPUT A (out), 15 VC (power), 16 NC, 17 GROUND (power), 18 OUTPUT B (out), 19 +VIN (power), 20 VREF (out)

## UC3526AQG3
designator U?
Regulating Pulse Width Modulator with Voltage Control, 50 % Duty Cycle, 0 to +70 degC, 20-pin PLCC (FN), Green (RoHS & no Sb/Br); PartNumber: UC3526AQG3; Manufacturer: Texas Instruments; Duty Cycle(Max)(%): 50; Frequency(Max)(kHz): 450; Rating: Catalog; Regulated Outputs(#): 2; SubFamily: PWM Controller; Topology: Boost, Buck, Flyback, Forward, Full-Bridge, Half-Bridge, Push-Pull; DatasheetVersion: SLUS187; PackageVersion: revB, Mar-1995; PackageReference: FN20; PackageDescription: 20-Pin Plastic Leaded Chip Carrier, 1.27 mm Pitch; Supplier 1: Digi-Key; Supplier Part Number 1: UC3526AQG3-ND; Supplier 2: Newark; Supplier Part Number 2: 70K5998; Supplier 3: Mouser; Supplier Part Number 3: 595-UC3526AQG3; Control Method: Voltage; Eco-Plan: Green (RoHS & no Sb/Br); UVLO Thresholds On/Off(V): 7/6.8; Mounting Technology: Surface Mount; Code_JEDEC: MS-018; ComponentLink1Description: Datasheet; ComponentLink1URL: http://www.ti.com/general/docs/lit/getliterature.tsp?genericPartNumber=UC3526A&fileType=pdf
footprint FN20_N (Leaded Chip Carrier, 20-Leads, Body 9x9mm, Pitch 1.27mm, IPC Medium Density)
footprint FN20_L (Leaded Chip Carrier, 20-Leads, Body 9x9mm, Pitch 1.27mm, IPC High Density)
footprint FN20_M (Leaded Chip Carrier, 20-Leads, Body 9x9mm, Pitch 1.27mm, IPC Low Density)
pins: 1 NC, 2 +ERROR (in), 3 -ERROR (in), 4 COMP (out), 5 CSS (in), 6 ~{RESET} (io), 7 - CURRENT SENSE (in), 8 + CURRENT SENSE (in), 9 ~{SHUTDOWN} (io), 10 RTIMING, 11 CT, 12 RD, 13 ~{SYNC} (io), 14 OUTPUT A (out), 15 VC (power), 16 NC, 17 GROUND (power), 18 OUTPUT B (out), 19 +VIN (power), 20 VREF (out)

## UC3526DW
designator U?
Regulating Pulse Width Modulator with Voltage Control, 50 % Duty Cycle, 0 to +70 degC, 18-pin SOIC (DW), Green (RoHS & no Sb/Br); PartNumber: UC3526DW; Manufacturer: Texas Instruments; Duty Cycle(Max)(%): 50; Frequency(Max)(kHz): 450; Rating: Catalog; Regulated Outputs(#): 2; SubFamily: PWM Controller; Topology: Boost, Flyback, Forward, Full-Bridge, Half-Bridge, Push-Pull; DatasheetVersion: SLUS185; PackageVersion: revG, Jan-2011; PackageReference: DW18; PackageDescription: 18-Pin Plastic Small Outline Integrated Circuit, 11.6 x 7.5 mm, Pitch 1.27 mm Pitch; Supplier 1: Digi-Key; Supplier Part Number 1: 296-11221-5-ND; Supplier 2: Farnell; Supplier Part Number 2: 1101441; Supplier 3: Newark; Supplier Part Number 3: 98K2094; Supplier 4: Newark; Supplier Part Number 4: 77C3137; Supplier 5: Mouser; Supplier Part Number 5: 595-UC3526DW; Control Method: Voltage; Eco-Plan: Green (RoHS & no Sb/Br); UVLO Thresholds On/Off(V): 7/6.8; Mounting Technology: Surface Mount; Code_JEDEC: MS-013-AB; ComponentLink1Description: Datasheet; ComponentLink1URL: http://www.ti.com/general/docs/lit/getliterature.tsp?genericPartNumber=UC3526&fileType=pdf
footprint DW18_N (SOIC, 18-Leads, Body 11.6x7.5mm, Pitch 1.27mm, IPC Medium Density)
footprint DW18_L (SOIC, 18-Leads, Body 11.6x7.5mm, Pitch 1.27mm, IPC High Density)
footprint DW18_M (SOIC, 18-Leads, Body 11.6x7.5mm, Pitch 1.27mm, IPC Low Density)
pins: 1 +ERROR (in), 2 -ERROR (in), 3 COMP (out), 4 CSS (in), 5 ~{RESET} (io), 6 -CURRENT SENSE (in), 7 +CURRENT SENSE (in), 8 ~{SHUTDOWN} (io), 9 RTIMING, 10 CT, 11 RD, 12 ~{SYNC} (io), 13 OUTPUT A (out), 14 VC (power), 15 GROUND (power), 16 OUTPUT B (out), 17 +VIN (power), 18 VREF (out)

## UC3526DWG4
designator U?
Regulating Pulse Width Modulator with Voltage Control, 50 % Duty Cycle, 0 to +70 degC, 18-pin SOIC (DW), Green (RoHS & no Sb/Br); PartNumber: UC3526DWG4; Manufacturer: Texas Instruments; Duty Cycle(Max)(%): 50; Frequency(Max)(kHz): 450; Rating: Catalog; Regulated Outputs(#): 2; SubFamily: PWM Controller; Topology: Boost, Flyback, Forward, Full-Bridge, Half-Bridge, Push-Pull; DatasheetVersion: SLUS185; PackageVersion: revG, Jan-2011; PackageReference: DW18; PackageDescription: 18-Pin Plastic Small Outline Integrated Circuit, 11.6 x 7.5 mm, Pitch 1.27 mm Pitch; Supplier 1: Digi-Key; Supplier Part Number 1: UC3526DWG4-ND; Supplier 2: Newark; Supplier Part Number 2: 63K6713; Supplier 3: Mouser; Supplier Part Number 3: 595-UC3526DWG4; Control Method: Voltage; Eco-Plan: Green (RoHS & no Sb/Br); UVLO Thresholds On/Off(V): 7/6.8; Mounting Technology: Surface Mount; Code_JEDEC: MS-013-AB; ComponentLink1Description: Datasheet; ComponentLink1URL: http://www.ti.com/general/docs/lit/getliterature.tsp?genericPartNumber=UC3526&fileType=pdf
footprint DW18_N (SOIC, 18-Leads, Body 11.6x7.5mm, Pitch 1.27mm, IPC Medium Density)
footprint DW18_L (SOIC, 18-Leads, Body 11.6x7.5mm, Pitch 1.27mm, IPC High Density)
footprint DW18_M (SOIC, 18-Leads, Body 11.6x7.5mm, Pitch 1.27mm, IPC Low Density)
pins: 1 +ERROR (in), 2 -ERROR (in), 3 COMP (out), 4 CSS (in), 5 ~{RESET} (io), 6 -CURRENT SENSE (in), 7 +CURRENT SENSE (in), 8 ~{SHUTDOWN} (io), 9 RTIMING, 10 CT, 11 RD, 12 ~{SYNC} (io), 13 OUTPUT A (out), 14 VC (power), 15 GROUND (power), 16 OUTPUT B (out), 17 +VIN (power), 18 VREF (out)